# Altium footprint library band.PcbLib: 9 footprints
Each footprint in its own frame and in the unit in brackets; x right, y up, seen from the top. Pads: shape width x height; smd on the part's side, far side on the other; paste and mask are expansions set on the pad; w line width, h text height; cw(c..) or ccw(c..) is an arc to the next point about the centre after c.
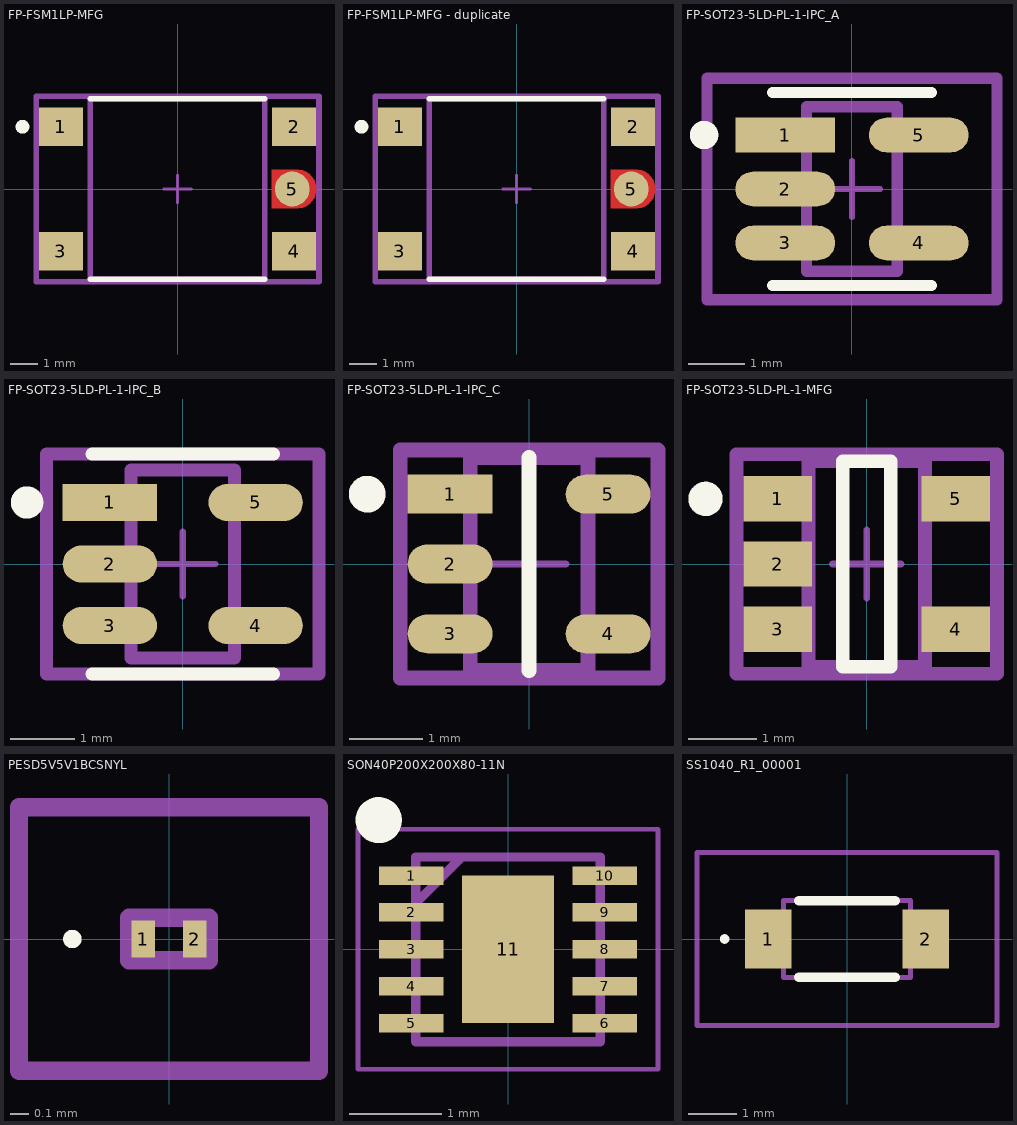
[diagram p0: the footprints below, top view; thin cyan lines are the x and y axes]

## FP-FSM1LP-MFG [mm]
pads (5):
  rect 1.6x1.395 smd paste+0 mask+0: 1(-4.205,2.248) 2(4.205,2.248) 3(-4.205,-2.248) 4(4.205,-2.248)
  round 1.26 smd paste+0 mask+0: 5(4.139,0)
Top Layer:
  region: 3.405,0.7 4.307,0.7 4.376,0.7 4.511,0.673 4.638,0.621 4.752,0.544 4.849,0.447 4.926,0.333 4.978,0.206 5.005,0.071 5.005,0.002 5.005,-0.002 5.005,-0.071 4.978,-0.206 4.926,-0.333 4.849,-0.447 4.752,-0.544 4.638,-0.621 4.511,-0.673 4.376,-0.7 4.307,-0.7 3.405,-0.7
Top Overlay:
  circle w0.25: c-5.595,2.245 r0.125
  lines w0.2: -3.145,-3.25 3.145,-3.25 ; -3.145,3.25 3.145,3.25
Top 3D Body:
  lines w0.2: -3.145,-3.25 3.145,-3.25 3.145,3.25 -3.145,3.25 -3.145,-3.25
Top Assembly:
  lines w0.2: -5.105,-3.35 5.105,-3.35 5.105,3.35 -5.105,3.35 -5.105,-3.35
  text ".Designator" at 0,0.188 h1
Top Courtyard:
  lines w0.2: -5.105,-3.35 5.105,-3.35 5.105,3.35 -5.105,3.35 -5.105,-3.35
Top Component Center:
  lines w0.1: -0.5,0 0.5,0 ; 0,-0.5 0,0.5
3D body "Switch_TE_Connectivity_FSM1LP_eec.STEP": height 0.25, standoff 0, extent -5.105,-3.35 5.105,3.35

## FP-FSM1LP-MFG - duplicate [mm]
pads (5):
  rect 1.6x1.395 smd paste+0 mask+0: 1(-4.205,2.248) 2(4.205,2.248) 3(-4.205,-2.248) 4(4.205,-2.248)
  round 1.26 smd paste+0 mask+0: 5(4.139,0)
Top Layer:
  region: 3.405,0.7 4.307,0.7 4.376,0.7 4.511,0.673 4.638,0.621 4.752,0.544 4.849,0.447 4.926,0.333 4.978,0.206 5.005,0.071 5.005,0.002 5.005,-0.002 5.005,-0.071 4.978,-0.206 4.926,-0.333 4.849,-0.447 4.752,-0.544 4.638,-0.621 4.511,-0.673 4.376,-0.7 4.307,-0.7 3.405,-0.7
Top Overlay:
  circle w0.25: c-5.595,2.245 r0.125
  lines w0.2: -3.145,-3.25 3.145,-3.25 ; -3.145,3.25 3.145,3.25
Top 3D Body:
  lines w0.2: -3.145,-3.25 3.145,-3.25 3.145,3.25 -3.145,3.25 -3.145,-3.25
Top Assembly:
  lines w0.2: -5.105,-3.35 5.105,-3.35 5.105,3.35 -5.105,3.35 -5.105,-3.35
  text ".Designator" at 0,0.188 h1
Top Courtyard:
  lines w0.2: -5.105,-3.35 5.105,-3.35 5.105,3.35 -5.105,3.35 -5.105,-3.35
Top Component Center:
  lines w0.1: -0.5,0 0.5,0 ; 0,-0.5 0,0.5
3D body "Switch_TE_Connectivity_FSM1LP_eec.STEP": height 0.25, standoff 0, extent -5.105,-3.35 5.105,3.35

## FP-SOT23-5LD-PL-1-IPC_A [mm]
pads (5):
  rect 1.756x0.61 smd paste+0 mask+0: 1(-1.175,0.95)
  rrect100% 1.756x0.61 smd paste+0 mask+0: 2(-1.175,0) 3(-1.175,-0.95) 4(1.175,-0.95) 5(1.175,0.95)
Top Overlay:
  circle w0.25: c-2.603,0.95 r0.125
  lines w0.2: -1.4,-1.7 1.4,-1.7 ; -1.4,1.7 1.4,1.7
Top 3D Body:
  lines w0.2: -0.8,-1.45 0.8,-1.45 0.8,1.45 -0.8,1.45 -0.8,-1.45
Top Assembly:
  lines w0.2: -2.553,-1.95 2.553,-1.95 2.553,1.95 -2.553,1.95 -2.553,-1.95
  text ".Designator" at 0,-0.001 h1
Top Courtyard:
  lines w0.2: -2.553,-1.95 2.553,-1.95 2.553,1.95 -2.553,1.95 -2.553,-1.95
Top Component Center:
  lines w0.1: -0.5,0 0.5,0 ; 0,-0.5 0,0.5
3D body "IC_Microchip_MIC7300YM5-TR_eec.STEP": height 0.25, standoff 0, extent -2.553,-1.95 2.553,1.95

## FP-SOT23-5LD-PL-1-IPC_B [mm]
pads (5):
  rect 1.456x0.57 smd paste+0 mask+0: 1(-1.125,0.95)
  rrect100% 1.456x0.57 smd paste+0 mask+0: 2(-1.125,0) 3(-1.125,-0.95) 4(1.125,-0.95) 5(1.125,0.95)
Top Overlay:
  circle w0.25: c-2.403,0.95 r0.125
  lines w0.2: -1.4,-1.7 1.4,-1.7 ; -1.4,1.7 1.4,1.7
Top 3D Body:
  lines w0.2: -0.8,-1.45 0.8,-1.45 0.8,1.45 -0.8,1.45 -0.8,-1.45
Top Assembly:
  lines w0.2: -2.103,-1.7 2.103,-1.7 2.103,1.7 -2.103,1.7 -2.103,-1.7
  text ".Designator" at 0,-0.001 h1
Top Courtyard:
  lines w0.2: -2.103,-1.7 2.103,-1.7 2.103,1.7 -2.103,1.7 -2.103,-1.7
Top Component Center:
  lines w0.1: -0.5,0 0.5,0 ; 0,-0.5 0,0.5
3D body "IC_Microchip_MIC7300YM5-TR_eec.STEP": height 0.25, standoff 0, extent -2.103,-1.7 2.103,1.7

## FP-SOT23-5LD-PL-1-IPC_C [mm]
pads (5):
  rect 1.156x0.53 smd paste+0 mask+0: 1(-1.075,0.95)
  rrect100% 1.156x0.53 smd paste+0 mask+0: 2(-1.075,0) 3(-1.075,-0.95) 4(1.075,-0.95) 5(1.075,0.95)
Top Overlay:
  circle w0.25: c-2.203,0.95 r0.125
  lines w0.2: -0.003,-1.45 -0.003,1.45 0.003,1.45 0.003,-1.45 -0.003,-1.45
Top 3D Body:
  lines w0.2: -0.8,-1.45 0.8,-1.45 0.8,1.45 -0.8,1.45 -0.8,-1.45
Top Assembly:
  lines w0.2: -1.753,-1.55 1.753,-1.55 1.753,1.55 -1.753,1.55 -1.753,-1.55
  text ".Designator" at 0,0.188 h1
Top Courtyard:
  lines w0.2: -1.753,-1.55 1.753,-1.55 1.753,1.55 -1.753,1.55 -1.753,-1.55
Top Component Center:
  lines w0.1: -0.5,0 0.5,0 ; 0,-0.5 0,0.5
3D body "IC_Microchip_MIC7300YM5-TR_eec.STEP": height 0.25, standoff 0, extent -1.753,-1.55 1.753,1.55

## FP-SOT23-5LD-PL-1-MFG [mm]
pads (5):
  rect 1x0.66 smd paste+0 mask+0: 1(-1.3,0.95) 2(-1.3,0) 3(-1.3,-0.95) 4(1.3,-0.95) 5(1.3,0.95)
Top Overlay:
  circle w0.25: c-2.35,0.95 r0.125
  lines w0.2: -0.35,-1.5 -0.35,1.5 0.35,1.5 0.35,-1.5 -0.35,-1.5
Top 3D Body:
  lines w0.2: -0.85,-1.5 -0.85,1.5 0.85,1.5 0.85,-1.5 -0.85,-1.5
Top Assembly:
  lines w0.2: -1.9,-1.6 -1.9,1.6 1.9,1.6 1.9,-1.6 -1.9,-1.6
  text ".Designator" at 0,0.188 h1
Top Courtyard:
  lines w0.2: -1.9,-1.6 -1.9,1.6 1.9,1.6 1.9,-1.6 -1.9,-1.6
Top Component Center:
  lines w0.1: -0.5,0 0.5,0 ; 0,-0.5 0,0.5
3D body "IC_Microchip_MIC7300YM5-TR_eec.STEP": height 0.25, standoff 0, extent -1.9,-1.6 1.9,1.6

## PESD5V5V1BCSNYL [mm]
pads (2):
  rect 0.13x0.2 smd: 1(-0.14,0) 2(0.14,0)
Top Overlay:
  lines w0.05: -0.55,0 ccw(c-0.525,0) -0.5,0 ccw(c-0.525,0) -0.55,0
Mechanical 13:
  lines w0.1: -0.215,-0.115 -0.215,0.115 0.215,0.115 0.215,-0.115 -0.215,-0.115
Mechanical 15:
  lines w0.1: -0.815,-0.715 -0.815,0.715 0.815,0.715 0.815,-0.715 -0.815,-0.715
3D body "PESD5V0H1BSNYL.stp": height 0.14, standoff 0, extent -0.215,-0.115 0.215,0.115

## SON40P200X200X80-11N [mm]
pads (11):
  rect 0.7x0.2 smd: 1(-1.05,0.8) 2(-1.05,0.4) 3(-1.05,0) 4(-1.05,-0.4) 5(-1.05,-0.8) 6(1.05,-0.8) 7(1.05,-0.4) 8(1.05,0) 9(1.05,0.4) 10(1.05,0.8)
  rect 1x1.6 smd: 11(0,0)
Top Overlay:
  circle w0.25: c-1.4,1.4 r0.125
Mechanical 13:
  lines w0.1: -1,0.5 -0.5,1 ; -1,-1 1,-1 1,1 -1,1 -1,-1
Mechanical 15:
  lines w0.05: -1.625,-1.3 1.625,-1.3 1.625,1.3 -1.625,1.3 -1.625,-1.3
3D body "BQ24045DSQR.stp": height 0.8, standoff 0, extent -1,-1 1,1

## SS1040_R1_00001 [mm]
pads (2):
  rect 0.97x1.22 smd: 1(-1.64,0) 2(1.64,0)
Top Overlay:
  lines w0.1: -2.6,0 ccw(c-2.55,0) -2.5,0 ccw(c-2.55,0) -2.6,0
  lines w0.2: -1,-0.8 1,-0.8 ; -1,0.8 1,0.8
Mechanical 13:
  lines w0.1: -1.325,-0.8 1.325,-0.8 1.325,0.8 -1.325,0.8 -1.325,-0.8
Mechanical 15:
  lines w0.1: -3.125,-1.8 3.125,-1.8 3.125,1.8 -3.125,1.8 -3.125,-1.8
3D body "SS1040_R1_00001.stp": height 1.45, standoff 0, extent -2.028,-0.8 2.028,0.8